# Altium footprint library WPN4020H2R2MT.PcbLib: 1 footprints
Each footprint in its own frame and in the unit in brackets; x right, y up, seen from the top. Pads: shape width x height; smd on the part's side, far side on the other; paste and mask are expansions set on the pad; w line width, h text height; cw(c..) or ccw(c..) is an arc to the next point about the centre after c.
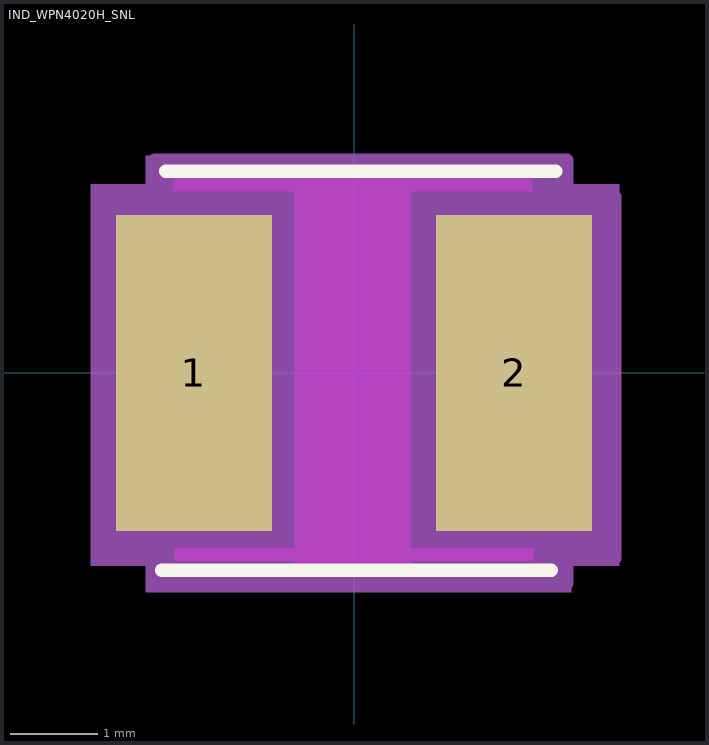
[diagram p0: the footprint, top view; thin cyan lines are the x and y axes]

## IND_WPN4020H_SNL [mil]
pads (2):
  rect 70x142 smd paste+0 mask+0: 1(-71.85,0) 2(71.85,0)
Top Layer keep-out:
  region: -26.57,-87.11 -26.57,87.11 25.59,87.11 25.59,-87.11
  region: -80.5,-84.24 -80.5,-78.74 80.5,-78.74 80.5,-84.24
  region: -80.99,81.61 -80.99,87.11 80.01,87.11 80.01,81.61
Top Overlay:
  lines w6: -86.42,-88.58 88.58,-88.58 ; -84.45,90.55 90.55,90.55
Keep-Out Layer:
  region: -25.59,-88.58 -25.59,87.6 25.59,87.6 25.59,-88.58
Mechanical 13:
  lines w1: -116.14,-85.63 118.11,-85.63 118.11,80.71 -116.14,80.71 ; -114.17,-84.65 -114.17,-37.31 -114.17,45.19 -114.17,81.69
Mechanical 15:
  region: -93.51,-86.61 -118.12,-86.61 -118.12,84.65 -93.51,84.65 -93.51,97.44 97.45,97.44 97.45,84.65 119.1,84.65 119.1,-86.61 97.45,-86.61 97.45,-98.43 -93.51,-98.43
  lines w6: -113.19,-82.97 -89.55,-82.97 -89.55,-94.47 95.45,-94.47 95.45,-82.97 117.13,-82.97 117.13,79.03 95.45,79.03 95.45,95.47 -89.55,95.47 -89.55,79.03 -113.19,79.03 -113.19,-82.97
3D body "IND_WPN4020H_SNL.step": height 80.98, standoff 0, extent -82.52,-80.55 82.52,84.49